# Altium schematic symbol library IC.Interfaces.SchLib: 10 symbols
Pins are listed as number, name and electrical type; pins without a type are passive.

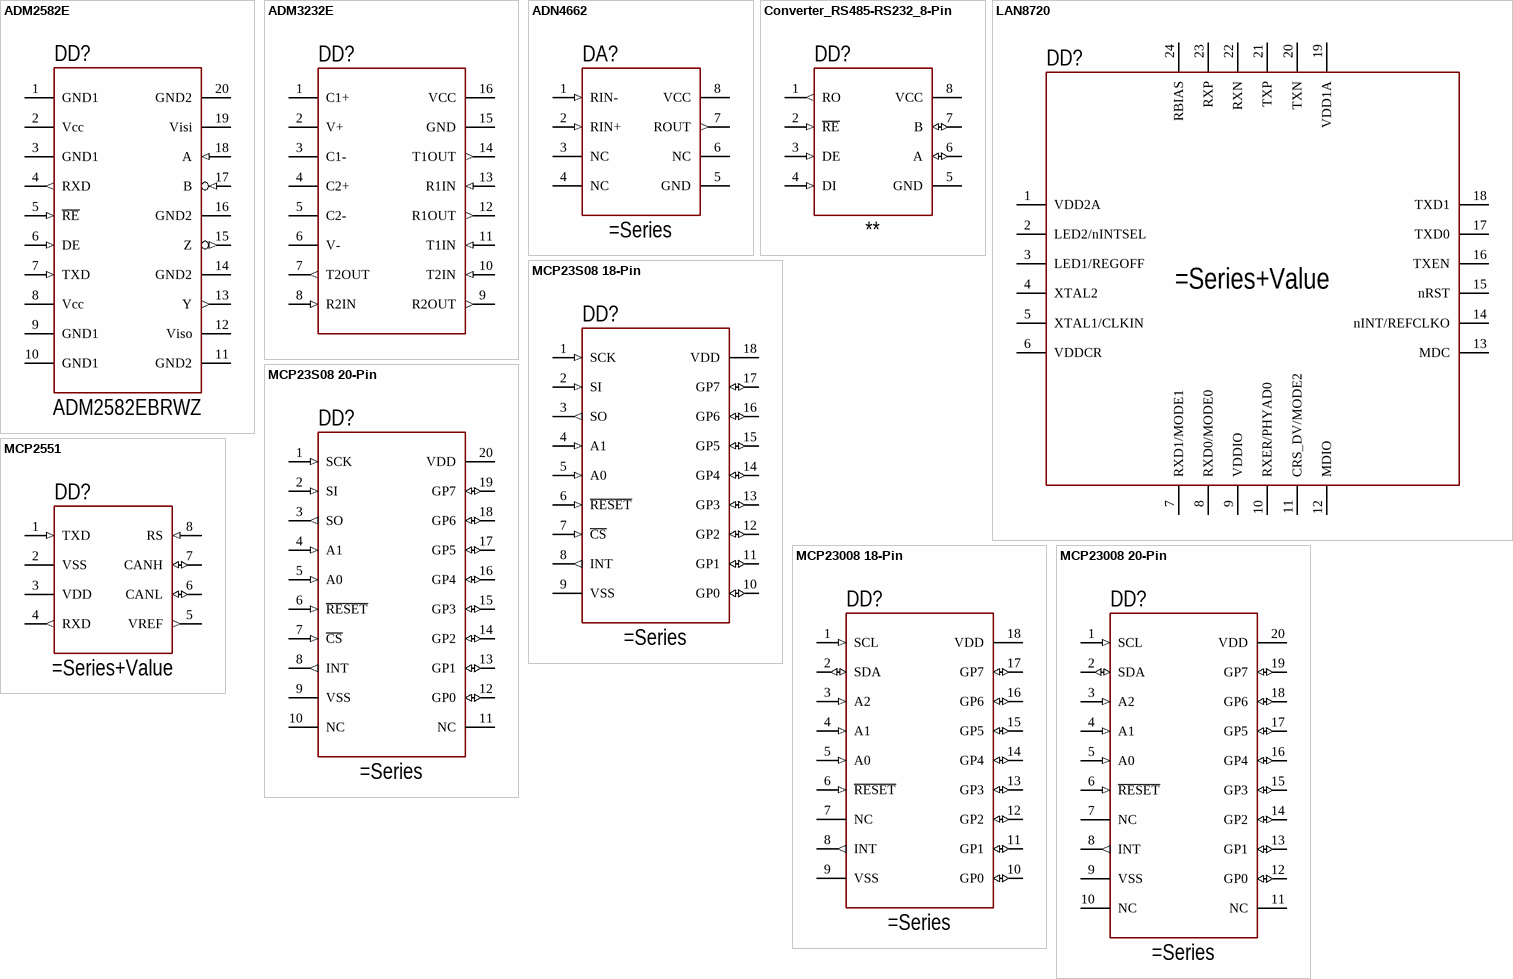
[diagram p0: symbols ADM2582E to MCP23008 20-Pin]

## ADM2582E
designator DD?, comment ADM2582EBRWZ
Signal and Power Isolated RS-485 Transceiver with ±15 kV ESD Protection; Package: BRWZ; Part: ADM2582E
footprint SOIC-20_12.80x7.50mm (SOIC, 20-Leads, Body 12.80x7.50mm, Pitch 1.27mm, IPC Medium Density)
pins: 1 GND1, 2 Vcc, 3 GND1, 4 RXD (out), 5 ~{RE} (in), 6 DE (in), 7 TXD (in), 8 Vcc, 9 GND1, 10 GND1, 11 GND2, 12 Viso, 13 Y (out), 14 GND2, 15 Z (out), 16 GND2, 17 B (in), 18 A (in), 19 Visi, 20 GND2

## ADM3232E
designator DD?  (value not drawn)
±15 kV ESD Protected, 3.3 V, RS-232 Line Driver/Receiver
pins: 1 C1+, 2 V+, 3 C1-, 4 C2+, 5 C2-, 6 V-, 7 T2OUT (out), 8 R2IN (in), 9 R2OUT (out), 10 T2IN (in), 11 T1IN (in), 12 R1OUT (out), 13 R1IN (in), 14 T1OUT (out), 15 GND, 16 VCC

## ADN4662
designator DA?
Single, 3 V, CMOS, LVDS Differential Line Receiver
pins: 1 RIN- (in), 2 RIN+ (in), 3 NC, 4 NC, 5 GND, 6 NC, 7 ROUT (out), 8 VCC

## Converter_RS485-RS232_8-Pin
designator DD?, comment **
RS-485 to RS-232 Converter; Package: *; Part: *
footprint SOIC-8_4.90x3.90mm (SOIC, 8-Leads, Body 4.90x3.90mm, Pitch 1.27mm, IPC Medium Density)
pins: 1 RO (out), 2 ~{RE} (in), 3 DE (in), 4 DI (in), 5 GND, 6 A (io), 7 B (io), 8 VCC

## LAN8720
designator DD?
RMII 10/100 Ethernet Transceiver with HP Auto-MDIX Support
pins: 1 VDD2A, 2 LED2/nINTSEL, 3 LED1/REGOFF, 4 XTAL2, 5 XTAL1/CLKIN, 6 VDDCR, 7 RXD1/MODE1, 8 RXD0/MODE0, 9 VDDIO, 10 RXER/PHYAD0, 11 CRS_DV/MODE2, 12 MDIO, 13 MDC, 14 nINT/REFCLKO, 15 nRST, 16 TXEN, 17 TXD0, 18 TXD1, 19 VDD1A, 20 TXN, 21 TXP, 22 RXN, 23 RXP, 24 RBIAS, PAD GND hidden to GND

## MCP23S08 18-Pin
designator DD?
MCP23S08 8-Bit I/O Expander with SPI Interface, 18-Pin Package
pins: 1 SCK (in), 2 SI (in), 3 SO (out), 4 A1 (in), 5 A0 (in), 6 ~{RESET} (in), 7 ~{CS} (in), 8 INT (out), 9 VSS, 10 GP0 (io), 11 GP1 (io), 12 GP2 (io), 13 GP3 (io), 14 GP4 (io), 15 GP5 (io), 16 GP6 (io), 17 GP7 (io), 18 VDD

## MCP23S08 20-Pin
designator DD?
MCP23S08 8-Bit I/O Expander with SPI Interface, 20-Pin Package
pins: 1 SCK (in), 2 SI (in), 3 SO (out), 4 A1 (in), 5 A0 (in), 6 ~{RESET} (in), 7 ~{CS} (in), 8 INT (out), 9 VSS, 10 NC, 11 NC, 12 GP0 (io), 13 GP1 (io), 14 GP2 (io), 15 GP3 (io), 16 GP4 (io), 17 GP5 (io), 18 GP6 (io), 19 GP7 (io), 20 VDD

## MCP2551
designator DD?
High-speed CAN Transceiver
pins: 1 TXD (in), 2 VSS, 3 VDD, 4 RXD (out), 5 VREF (out), 6 CANL (io), 7 CANH (io), 8 RS (in)

## MCP23008 18-Pin
designator DD?
MCP23008 8-Bit I/O Expander with I2C Interface, 18-Pin Package
pins: 1 SCL (in), 2 SDA (io), 3 A2 (in), 4 A1 (in), 5 A0 (in), 6 ~{RESET} (in), 7 NC, 8 INT (out), 9 VSS, 10 GP0 (io), 11 GP1 (io), 12 GP2 (io), 13 GP3 (io), 14 GP4 (io), 15 GP5 (io), 16 GP6 (io), 17 GP7 (io), 18 VDD

## MCP23008 20-Pin
designator DD?
MCP23S08 8-Bit I/O Expander with I2C Interface, 20-Pin Package
pins: 1 SCL (in), 2 SDA (io), 3 A2 (in), 4 A1 (in), 5 A0 (in), 6 ~{RESET} (in), 7 NC, 8 INT (out), 9 VSS, 10 NC, 11 NC, 12 GP0 (io), 13 GP1 (io), 14 GP2 (io), 15 GP3 (io), 16 GP4 (io), 17 GP5 (io), 18 GP6 (io), 19 GP7 (io), 20 VDD